# Altium footprint library PCB - PASSIVES - IND 0806_2016.PCBLIB: 1 footprints
Each footprint in its own frame and in the unit in brackets; x right, y up, seen from the top. Pads: shape width x height; smd on the part's side, far side on the other; paste and mask are expansions set on the pad; w line width, h text height; cw(c..) or ccw(c..) is an arc to the next point about the centre after c.
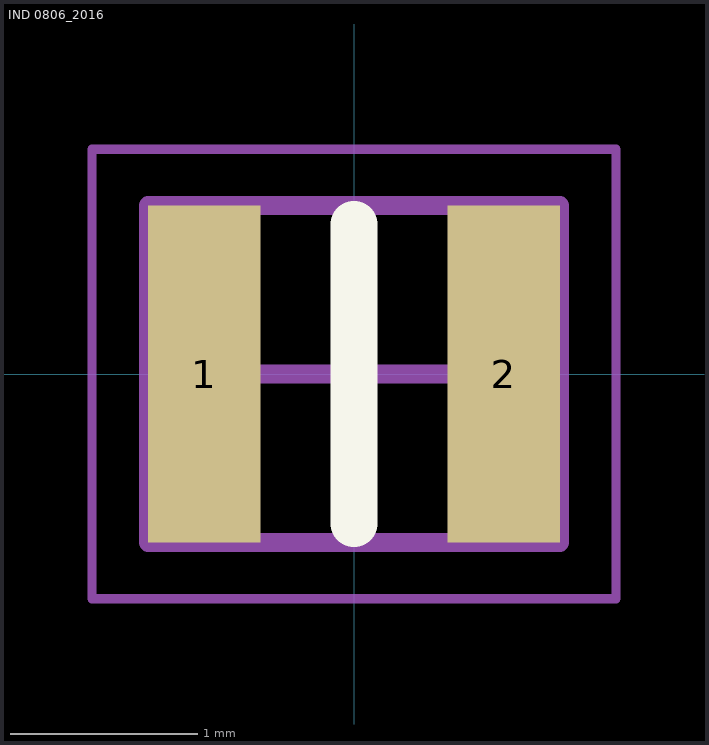
[diagram p0: the footprint, top view; thin cyan lines are the x and y axes]

## IND 0806_2016 [mm] "Chip Capacitor, 2-Leads, Body 2.00x1.20mm, IPC Medium Density"
height 1.8
pads (2):
  rect 0.6x1.8 smd: 1(-0.8,0) 2(0.8,0)
Top Overlay:
  lines w0.25: 0,-0.8 0,0.8
Top Courtyard:
  lines w0.05: -1.4,-1.2 -1.4,1.2 1.4,1.2 1.4,-1.2 -1.4,-1.2
  lines w0.1: -0.5,0 0.5,0 ; 0,-0.5 0,0.5
Top Assembly:
  lines w0.1: -1.1,-0.9 -1.1,0.9 1.1,0.9 1.1,-0.9 -1.1,-0.9
  text ".Designator" at -0.1,-0.314 h1.52
3D body "INDUC 0806.step": height 1.81, standoff -0.01, extent -1.01,-0.91 1.01,0.91